# Altium integrated library 10uFCAPC3216X100N.IntLib: 1 symbol
Pins are listed as number, name and electrical type; pins without a type are passive.

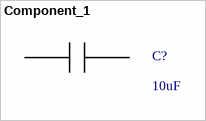
[diagram p0: symbol Component_1]

## Component_1
designator C?, comment 10uF
footprint CAPC3216X100N
pins: In, Out